# Altium footprint library PCB - LEADLESS - DFN - TI WSON-8 NGT.PCBLIB: 1 footprints
Each footprint in its own frame and in the unit in brackets; x right, y up, seen from the top. Pads: shape width x height; smd on the part's side, far side on the other; paste and mask are expansions set on the pad; w line width, h text height; cw(c..) or ccw(c..) is an arc to the next point about the centre after c.
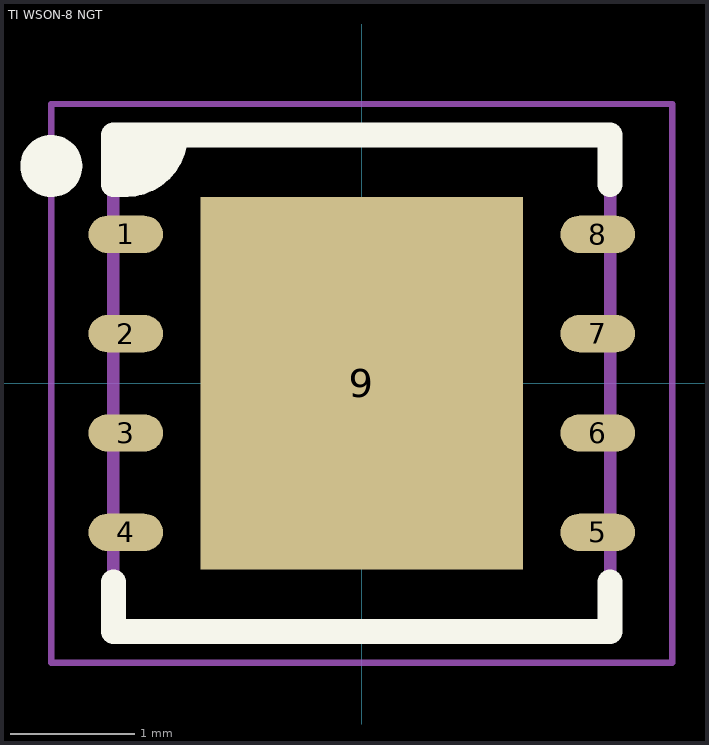
[diagram p0: the footprint, top view; thin cyan lines are the x and y axes]

## TI WSON-8 NGT [mm] "DFN, 8-Leads, Body 4.00x4.00mm, Pitch 0.80mm, Thermal Pad 3.00X2.6mm, IPC Medium Density"
height 0.8
pads (9):
  oval 0.6x0.3 smd: 1(-1.9,1.2) 2(-1.9,0.4) 3(-1.9,-0.4) 4(-1.9,-1.2) 5(1.9,-1.2) 6(1.9,-0.4) 7(1.9,0.4) 8(1.9,1.2)
  rect 2.6x3 smd: 9(0,0)
Top Overlay:
  circle w0.25: c-2.5,1.75 r0.125
  region: -2,2 -2,1.6 -1.8,1.6 -1.5,1.9 -1.5,2
  lines w0.2: -2,-1.6 -2,-2 2,-2 2,-1.6 ; -1.5,2 cw(c-1.9,2) -1.9,1.6 -2,1.6 -2,2 2,2 2,1.6
Mechanical 13:
  circle w0.1: c-0.65,0.65 r0.5
  lines w0.1: -2,-2 2,-2 2,2 -2,2 -2,-2
Mechanical 15:
  lines w0.05: -2.5,-2.25 -2.5,2.25 2.5,2.25 2.5,-2.25 -2.5,-2.25
  lines w0.1: -0.5,0 0.5,0 ; 0,-0.5 0,0.5
3D body "TI - WSON-8 - SDC08A.step": height 0.8, standoff 0, extent -2.026,-2.035 2.026,2.035